# Altium footprint library Connector.PcbLib: 52 footprints (part 1 of 4)
Each footprint in its own frame and in the unit in brackets; x right, y up, seen from the top. Pads: shape width x height; smd on the part's side, far side on the other; paste and mask are expansions set on the pad; w line width, h text height; cw(c..) or ccw(c..) is an arc to the next point about the centre after c.
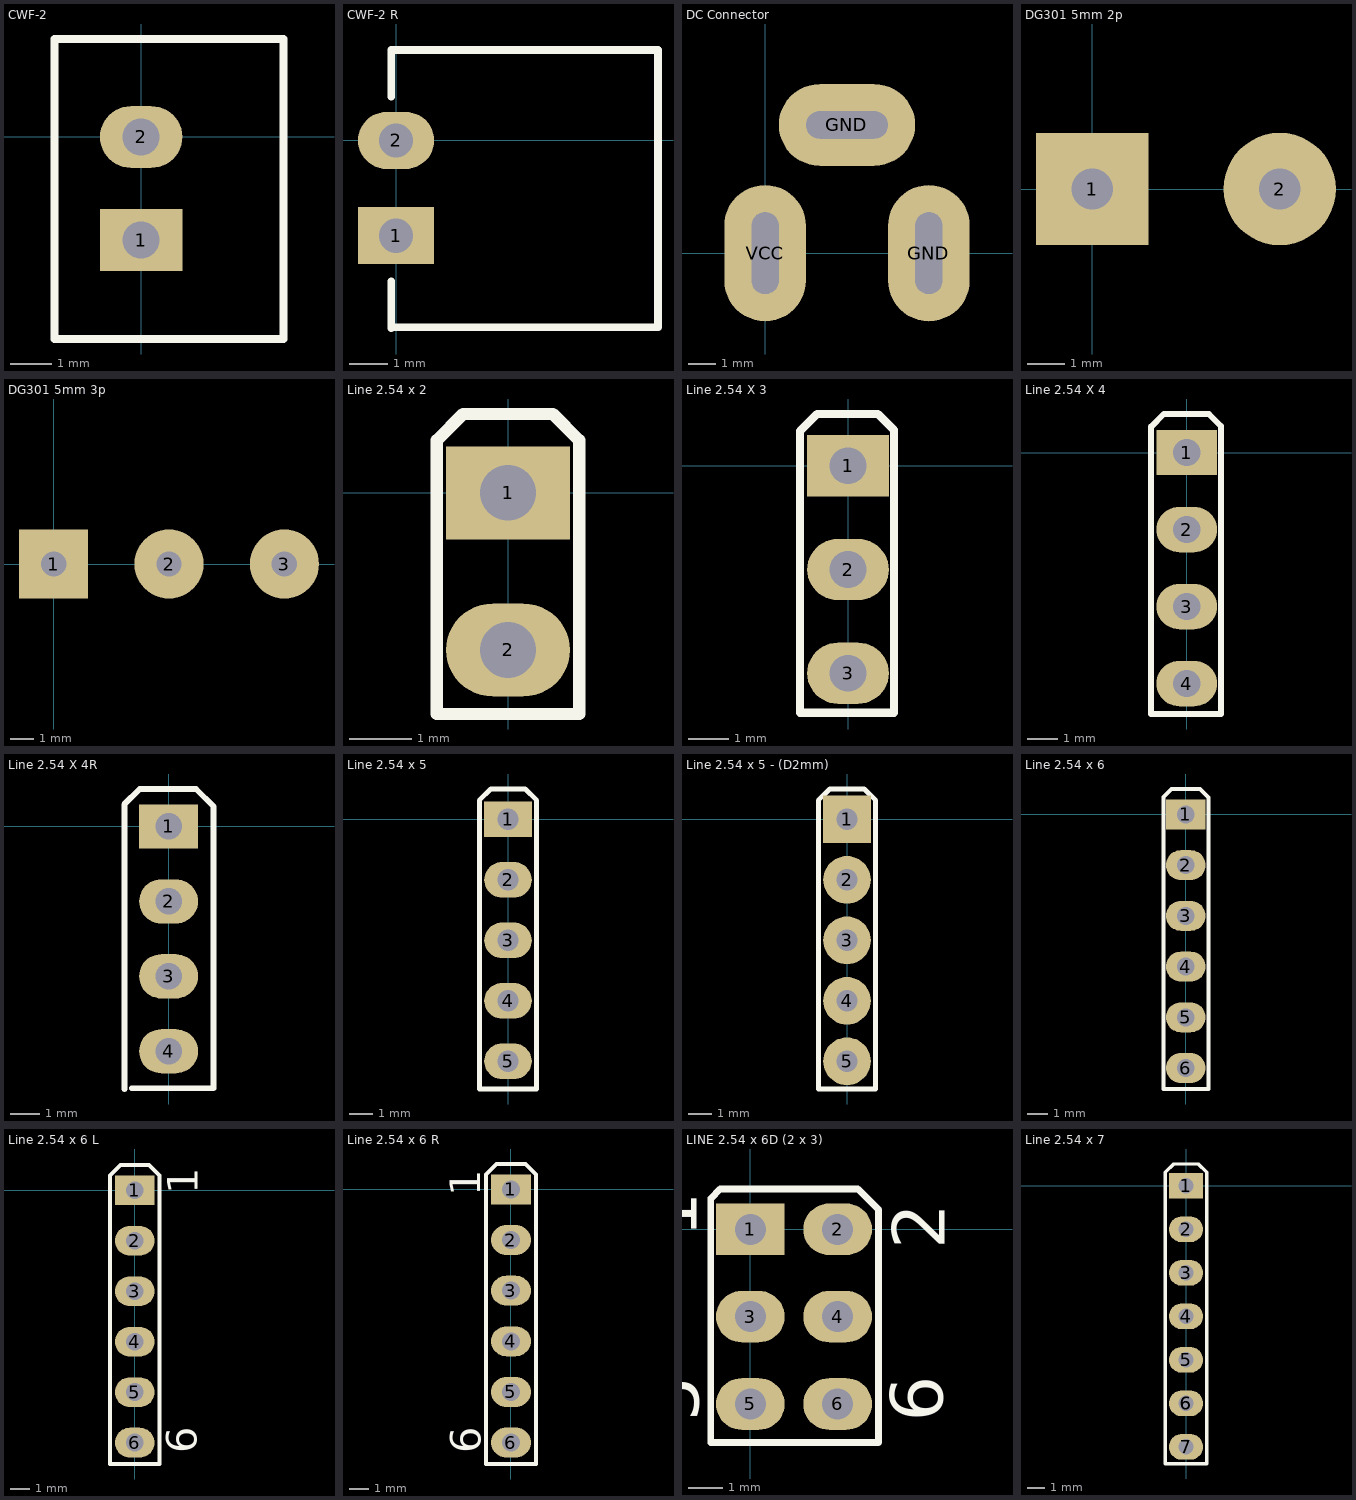
[diagram p0: the footprints below, top view; thin cyan lines are the x and y axes]

## CWF-2 [mm]
pads (2):
  rect 2x1.5 hole 0.9: 1(0,-2.5)
  oval 2x1.5 hole 0.9: 2(0,0)
Top Overlay:
  lines w0.2: -2.1,-4.9 3.45,-4.9 3.45,2.375 -2.1,2.375 -2.1,-4.9
3D body: height 7, standoff -3.5, extent -2.2,-5 3.55,2.5

## CWF-2 R [mm]
pads (2):
  rect 2x1.5 hole 0.9: 1(0,-2.5)
  oval 2x1.5 hole 0.9: 2(0,0)
Top Overlay:
  lines w0.2: -0.125,-4.925 -0.125,-3.7 ; -0.125,-4.9 6.875,-4.9 6.875,2.375 -0.125,2.375 -0.125,1.15
3D body: height 5.8, standoff 0.05, extent -3.5,-5 7,2.5

## DC Connector [mm] "Ext Pin D: 5.5mm; Int Pin D: 2.5mm"
pads (3):
  oval 5x3 hole 1 slot 3 at 0 deg: GND(3,4.7)
  oval 3x5 hole 1 slot 3 at 90 deg: GND(6,0) VCC(0,0)
3D body: height 11, standoff -3.5, extent -0.2,-4.528 13.626,4.978

## DG301 5mm 2p [mm]
pads (2):
  rect 3x3 hole 1.1: 1(0,0)
  round 3 hole 1.1: 2(5,0)
3D body: height 10, standoff -4.16, extent -3.1,-3.4 7.5,4.2

## DG301 5mm 3p [mm]
pads (3):
  rect 3x3 hole 1.1: 1(0,0)
  round 3 hole 1.1: 2(5,0) 3(10,0)
3D body: height 10, standoff -4.16, extent -3.1,-3.4 12.5,4.2

## Line 2.54 x 2 [mm]
pads (2):
  rect 2x1.5 hole 0.9: 1(0,0)
  oval 2x1.5 hole 0.9: 2(0,-2.54)
Top Overlay:
  lines w0.2: -1.15,-3.575 -1.15,0.85 -0.725,1.275 0.725,1.275 1.15,0.85 1.15,-3.575 -1.15,-3.575
3D body: height 8.3, standoff -2.9, extent -1.253,-3.69 1.246,1.39

## Line 2.54 X 3 [mm]
pads (3):
  rect 2x1.5 hole 0.9: 1(0,0)
  oval 2x1.5 hole 0.9: 2(0,-2.54) 3(0,-5.08)
Top Overlay:
  lines w0.2: -1.175,-6.05 -1.175,0.85 -0.755,1.27 0.73,1.27 1.125,0.875 1.125,-1.385 1.125,-6.05 -1.175,-6.05
3D body: height 8.2, standoff -3, extent -1.274,-6.245 1.224,1.375

## Line 2.54 X 4 [mm]
pads (4):
  rect 2x1.5 hole 0.9: 1(0,0)
  oval 2x1.5 hole 0.9: 2(0,-2.54) 3(0,-5.08) 4(0,-7.62)
Top Overlay:
  lines w0.2: -1.175,-8.625 1.125,-8.625 1.125,-1.385 1.125,0.875 0.73,1.27 -0.755,1.27 -1.175,0.85 -1.175,-8.625
3D body: height 8.2, standoff -3, extent -1.249,-8.785 1.249,1.375

## Line 2.54 X 4R [mm]
pads (4):
  rect 2x1.5 hole 0.9: 1(0,0)
  oval 2x1.5 hole 0.9: 2(0,-2.54) 3(0,-5.08) 4(0,-7.62)
Top Overlay:
  lines w0.2: -1.5,-8.9 -1.5,0.75 -0.98,1.27 0.93,1.27 1.525,0.675 1.525,-0.985 1.525,-8.875 -1.25,-8.875
3D body: height 2.64, standoff -2.9, extent -10.035,-8.9 0.325,1.26

## Line 2.54 x 5 [mm]
pads (5):
  rect 2x1.5 hole 0.9: 1(0,0)
  oval 2x1.5 hole 0.9: 2(0,-2.54) 3(0,-5.08) 4(0,-7.62) 5(0,-10.16)
Top Overlay:
  lines w0.2: -1.2,-11.325 1.2,-11.325 1.2,0.8 0.725,1.275 -0.725,1.275 -1.2,0.8 -1.2,-11.325
3D body: height 8.2, standoff -3, extent -1.253,-11.33 1.246,1.37

## Line 2.54 x 5 - (D2mm) [mm]
pads (5):
  rect 2x2 hole 0.9: 1(0,0)
  round 2 hole 0.9: 2(0,-2.54) 3(0,-5.08) 4(0,-7.62) 5(0,-10.16)
Top Overlay:
  lines w0.2: -1.2,-11.325 1.2,-11.325 1.2,0.8 0.725,1.275 -0.725,1.275 -1.2,0.8 -1.2,-11.325
3D body: height 8.2, standoff -3, extent -1.253,-11.33 1.246,1.37

## Line 2.54 x 6 [mm]
pads (6):
  rect 2x1.5 hole 0.9: 1(0,0)
  oval 2x1.5 hole 0.9: 2(0,-2.54) 3(0,-5.08) 4(0,-7.62) 5(0,-10.16) 6(0,-12.7)
Top Overlay:
  lines w0.2: -1.125,-13.75 1.15,-13.75 1.15,0.85 0.725,1.275 -0.725,1.275 -1.125,0.875 -1.125,-13.75
3D body: height 8.2, standoff -3, extent -1.249,-13.865 1.249,1.375

## Line 2.54 x 6 L [mm]
pads (6):
  rect 2x1.5 hole 0.9: 1(0,0)
  oval 2x1.5 hole 0.9: 2(0,-2.54) 3(0,-5.08) 4(0,-7.62) 5(0,-10.16) 6(0,-12.7)
Top Overlay:
  lines w0.2: -1.25,-13.775 -1.25,0.75 -0.725,1.275 0.725,1.275 1.25,0.75 1.25,-13.775 -1.25,-13.775
  text "6" at 3.125,-13.225 h1.52
  text "1" at 3.175,-0.2 h1.52
3D body: height 2.5, standoff -3.04, extent -10.045,-11.42 0.315,-8.88
3D body: height 2.5, standoff -3.04, extent -10.045,-13.97 0.315,-11.43
3D body: height 2.5, standoff -3.04, extent -10.035,-8.885 0.325,1.275

## Line 2.54 x 6 R [mm]
pads (6):
  rect 2x1.5 hole 0.9: 1(0,0)
  oval 2x1.5 hole 0.9: 2(0,-2.54) 3(0,-5.08) 4(0,-7.62) 5(0,-10.16) 6(0,-12.7)
Top Overlay:
  lines w0.2: -1.25,-13.775 1.25,-13.775 1.25,0.75 0.725,1.275 -0.725,1.275 -1.25,0.75 -1.25,-13.775
  text "1" at -1.55,-0.35 h1.52
  text "6" at -1.525,-13.225 h1.52
3D body: height 2.5, standoff -3.04, extent -0.325,-8.885 10.035,1.275
3D body: height 2.5, standoff -3.04, extent -0.325,-13.97 10.035,-11.43
3D body: height 2.5, standoff -3.04, extent -0.325,-11.42 10.035,-8.88

## LINE 2.54 x 6D (2 x 3) [mm]
pads (6):
  rect 2x1.5 hole 0.9: 1(0,0)
  oval 2x1.5 hole 0.9: 2(2.54,0) 3(0,-2.54) 4(2.54,-2.54) 5(0,-5.08) 6(2.54,-5.08)
Top Overlay:
  lines w0.2: -1.15,-6.2 3.725,-6.2 3.725,0.575 3.125,1.175 0.869,1.175 -0.875,1.175 -1.15,0.9 -1.15,-6.2
  text "6" at 5.6,-5.6 h1.52
  text "5" at -1.5,-5.6 h1.52
  text "2" at 5.65,-0.575 h1.52
  text "1" at -1.55,-0.25 h1.52
3D body: height 8.5, standoff -3, extent -1.265,-6.36 3.815,1.26

## Line 2.54 x 7 [mm]
pads (8):
  rect 2x1.5 hole 0.9: 1(0,0)
  oval 2x1.5 hole 0.9: 2(0,-2.54) 3(0,-5.08) 4(0,-7.62) 5(0,-10.16) 6(0,-12.7) 6(0,-12.7) 7(0,-15.24)
Top Overlay:
  lines w0.2: -1.2,-16.225 -1.2,0.8 -0.725,1.275 0.725,1.275 1.2,0.8 1.2,-16.225 -1.2,-16.225
3D body: height 8.2, standoff -3, extent -1.253,-16.41 1.246,1.37